# EAGLE library part FP24-2000 (library actuador)
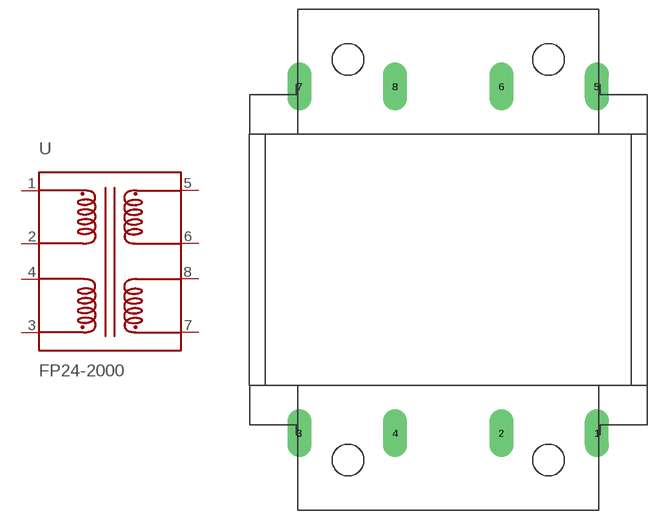
[diagram p0: symbol with the pads of FP24-2000; footprint FP24-2000]

Designator prefix -

## FP24-2000  [FP24-2000]
1  1  pas
2  2  pas
3  3  pas
4  4  pas
5  5  pas
6  6  pas
7  7  pas
8  8  pas

## Footprint FP24-2000 (pad centres in mm)
drill 1.524 pad 3.81 long: 1 23.736,-27.686; 2 8.496,-27.686; 3 -23.736,-27.686; 4 -8.496,-27.686; 5 23.736,27.686; 6 8.496,27.686; 7 -23.736,27.686; 8 -8.496,27.686